# EAGLE library part TRIL-2AM (library gost_relay)
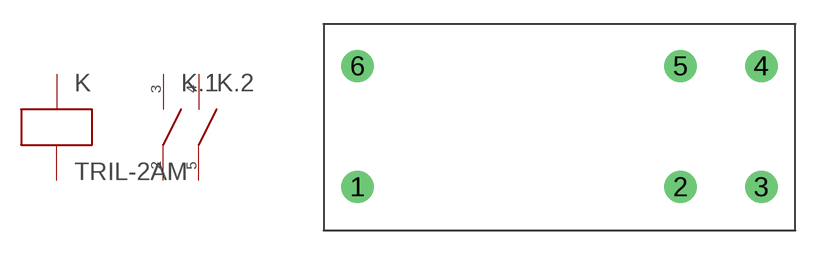
[diagram p1: symbol with the pads of TRIL-2AM(-1AE); footprint TRIL-2AM(-1AE)]

Designator prefix K; gates G$1=K .1=S1 .2=S1

## TRIL-2AM  [TRIL-2AM(-1AE)]
1  G$1:P$1
2  .1:C
3  .1:NO
4  .2:NO
5  .2:C
6  G$1:P$2

## Footprint TRIL-2AM(-1AE) (pad centres in mm)
drill 1.3 pad 2: 1 -12.5,-3.5; 2 7.5,-3.5; 3 12.5,-3.5; 4 12.5,4; 5 7.5,4; 6 -12.5,4